# Altium footprint library chipsLibPcb.PcbLib: 20 footprints (part 1 of 2)
Each footprint in its own frame and in the unit in brackets; x right, y up, seen from the top. Pads: shape width x height; smd on the part's side, far side on the other; paste and mask are expansions set on the pad; w line width, h text height; cw(c..) or ccw(c..) is an arc to the next point about the centre after c.
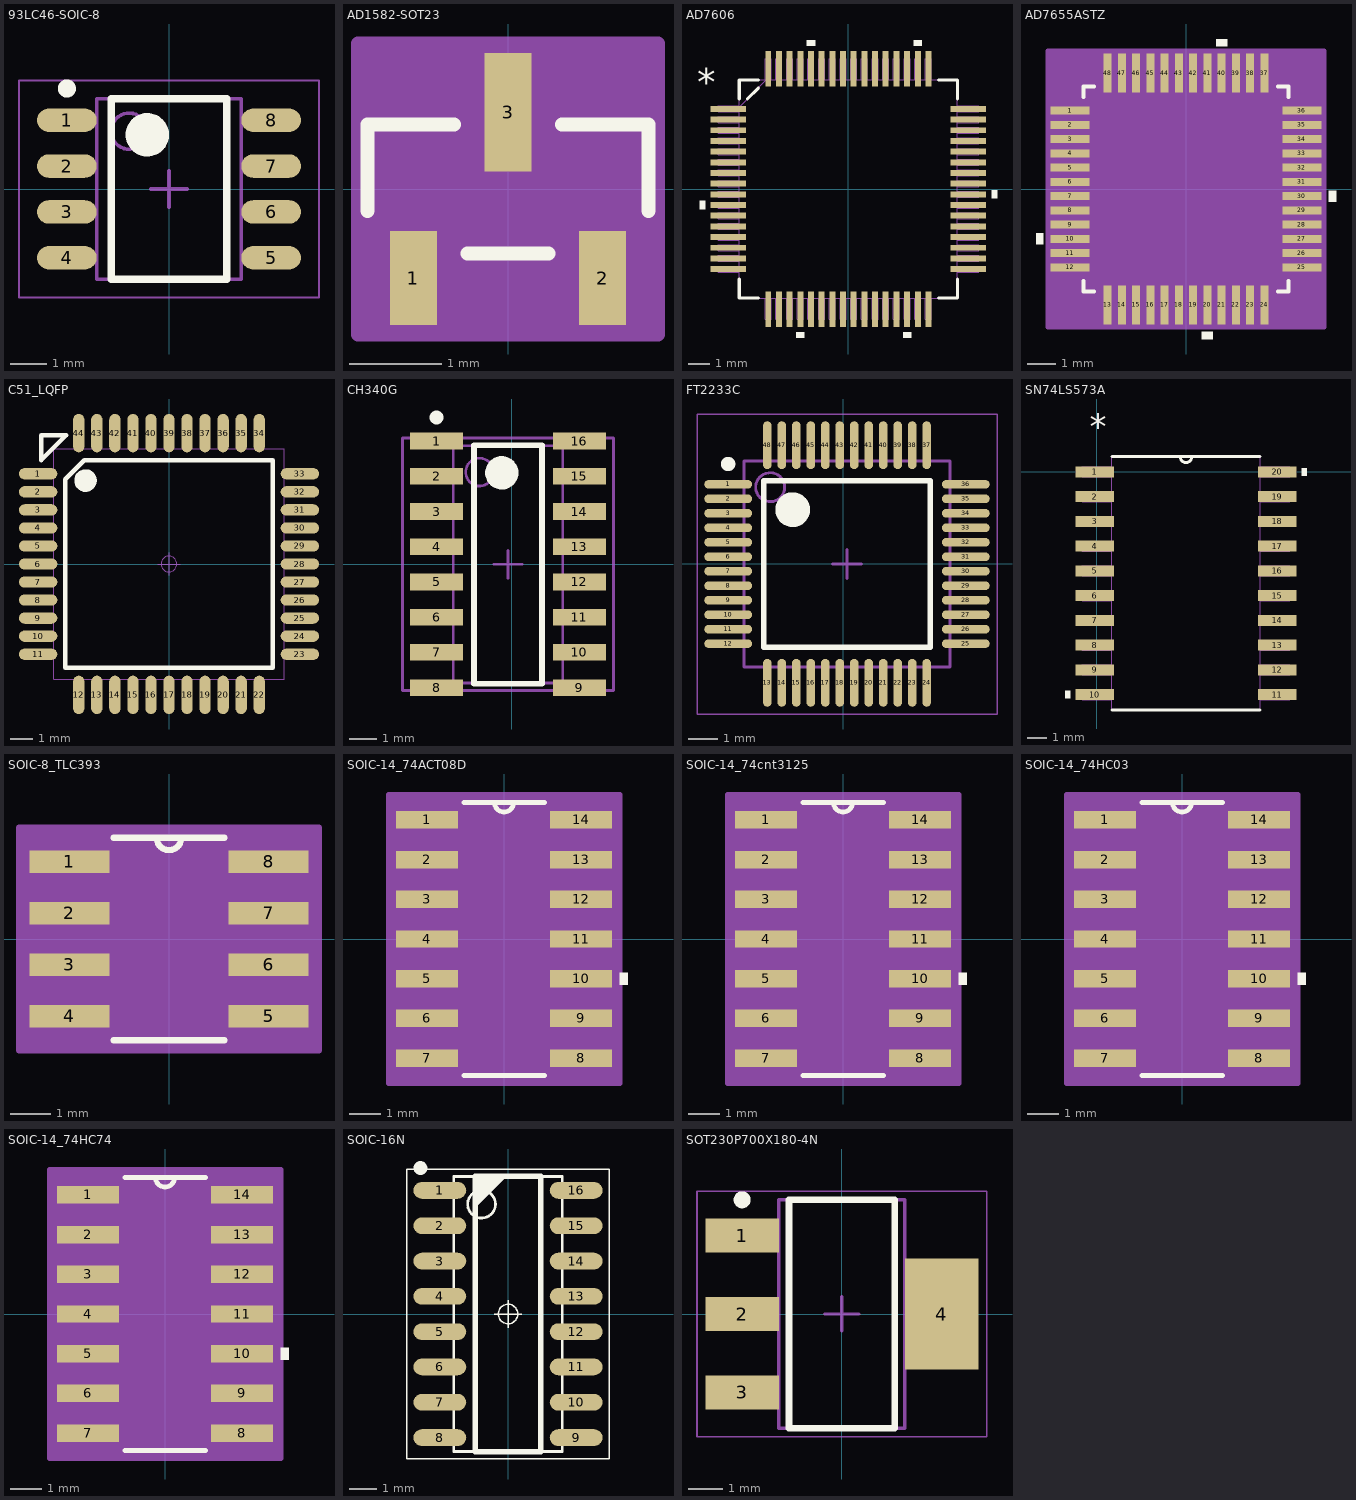
[diagram p0: the footprints below, top view; thin cyan lines are the x and y axes]

## 93LC46-SOIC-8 [mm] "SOIC, 8-Leads, Body 4.90x3.85mm, Pitch 1.27mm, IPC Low Density"
height 1.75
pads (8):
  oval 1.65x0.65 smd: 1(-2.825,1.905) 2(-2.825,0.635) 3(-2.825,-0.635) 4(-2.825,-1.905) 5(2.825,-1.905) 6(2.825,-0.635) 7(2.825,0.635) 8(2.825,1.905)
Top Overlay:
  circle w0.6: c-0.6,1.5 r0.3
  circle w0.25: c-2.825,2.78 r0.125
  lines w0.2: -1.6,-2.5 1.6,-2.5 1.6,2.5 -1.6,2.5 -1.6,-2.5
Mechanical 13:
  circle w0.1: c-1.1,1.6 r0.5
  lines w0.1: -2,-2.5 2,-2.5 2,2.5 -2,2.5 -2,-2.5
Mechanical 15:
  lines w0.05: -4.15,-3 4.15,-3 4.15,3 -4.15,3 -4.15,-3
  lines w0.1: -0.5,0 0.5,0 ; 0,-0.5 0,0.5
3D body: height 1.75, standoff 0.1, extent -2,-2.5 2,2.5

## AD1582-SOT23 [mil]
pads (3):
  rect 20x40 smd: 1(-40.35,-38) 2(40.35,-38)
  rect 20x50.5 smd: 3(0,32.75)
Top Overlay:
  lines w6: -60,-9.28 -60,27.5 -23,27.5 ; -17.35,-27.5 17.35,-27.5 ; 23,27.5 60,27.5 60,-9.28
Mechanical 13:
  lines w1: -60,-27.5 60,-27.5 60,27.5 -60,27.5 -60,-27.5 ; -50.35,-52 -50.35,-27.5 -30.35,-27.5 -30.35,-52 -50.35,-52 ; -10,27.5 10,27.5 10,52 -10,52 -10,27.5 ; 30.35,-52 30.35,-27.5 50.35,-27.5 50.35,-52 30.35,-52
Mechanical 15:
  region: 64,-62 -64,-62 -64,62 64,62
  lines w6: -64,-62 -64,62 64,62 64,-62 -64,-62
3D body: height 10, standoff 0, extent 0,0 10,10

## AD7606 [mil]
pads (64):
  rect 65.5x11 smd: 1(-221.25,147.64) 2(-221.25,127.95) 3(-221.25,108.27) 4(-221.25,88.58) 5(-221.25,68.9) 6(-221.25,49.21) 7(-221.25,29.53) 8(-221.25,9.84) 9(-221.25,-9.84) 10(-221.25,-29.53) 11(-221.25,-49.21) 12(-221.25,-68.9) 13(-221.25,-88.58) 14(-221.25,-108.27) 15(-221.25,-127.95) 16(-221.25,-147.64) 33(221.25,-147.64) 34(221.25,-127.95) 35(221.25,-108.27) 36(221.25,-88.58) 37(221.25,-68.9) 38(221.25,-49.21) 39(221.25,-29.53) 40(221.25,-9.84) 41(221.25,9.84) 42(221.25,29.53) 43(221.25,49.21) 44(221.25,68.9) 45(221.25,88.58) 46(221.25,108.27) 47(221.25,127.95) 48(221.25,147.64)
  rect 11x65.5 smd: 17(-147.64,-221.25) 18(-127.95,-221.25) 19(-108.27,-221.25) 20(-88.58,-221.25) 21(-68.9,-221.25) 22(-49.21,-221.25) 23(-29.53,-221.25) 24(-9.84,-221.25) 25(9.84,-221.25) 26(29.53,-221.25) 27(49.21,-221.25) 28(68.9,-221.25) 29(88.58,-221.25) 30(108.27,-221.25) 31(127.95,-221.25) 32(147.64,-221.25) 49(147.64,221.25) 50(127.95,221.25) 51(108.27,221.25) 52(88.58,221.25) 53(68.9,221.25) 54(49.21,221.25) 55(29.53,221.25) 56(9.84,221.25) 57(-9.84,221.25) 58(-29.53,221.25) 59(-49.21,221.25) 60(-68.9,221.25) 61(-88.58,221.25) 62(-108.27,221.25) 63(-127.95,221.25) 64(-147.64,221.25)
Top Overlay:
  region: -61.4,264 -76.4,264 -76.4,274 -61.4,274
  region: 135.45,264 120.45,264 120.45,274 135.45,274
  region: 264,-2.34 274,-2.34 274,-17.34 264,-17.34
  region: 115.77,-264 100.77,-264 100.77,-274 115.77,-274
  region: -81.08,-264 -96.08,-264 -96.08,-274 -81.08,-274
  region: -264,-22.03 -274,-22.03 -274,-37.03 -264,-37.03
  lines w6: -201,-166.14 -201,-201 -166.14,-201 ; -201,166.14 -201,201 -166.14,201 ; -186.09,165.91 -165.91,186.09 ; 166.14,-201 201,-201 201,-166.14 ; 166.14,201 201,201 201,166.14
  text "*" at -279,172.48 h50
Mechanical 1:
  drawing of 261 lines, arcs and shapes, not listed
  text "*" at -279,172.48 h50

## AD7655ASTZ [mil]
pads (48):
  rect 54x11 smd mask+5: 1(-160,108.27) 2(-160,88.58) 3(-160,68.9) 4(-160,49.21) 5(-160,29.53) 6(-160,9.84) 7(-160,-9.84) 8(-160,-29.53) 9(-160,-49.21) 10(-160,-68.9) 11(-160,-88.58) 12(-160,-108.27) 25(160,-108.27) 26(160,-88.58) 27(160,-68.9) 28(160,-49.21) 29(160,-29.53) 30(160,-9.84) 31(160,9.84) 32(160,29.53) 33(160,49.21) 34(160,68.9) 35(160,88.58) 36(160,108.27)
  rect 11x54 smd mask+5: 13(-108.27,-160) 14(-88.58,-160) 15(-68.9,-160) 16(-49.21,-160) 17(-29.53,-160) 18(-9.84,-160) 19(9.84,-160) 20(29.53,-160) 21(49.21,-160) 22(68.9,-160) 23(88.58,-160) 24(108.27,-160) 37(108.27,160) 38(88.58,160) 39(68.9,160) 40(49.21,160) 41(29.53,160) 42(9.84,160) 43(-9.84,160) 44(-29.53,160) 45(-49.21,160) 46(-68.9,160) 47(-88.58,160) 48(-108.27,160)
Top Overlay:
  region: 56.71,197 41.71,197 41.71,207 56.71,207
  region: 197,-2.34 207,-2.34 207,-17.34 197,-17.34
  region: 37.03,-197 22.03,-197 22.03,-207 37.03,-207
  region: -197,-61.4 -207,-61.4 -207,-76.4 -197,-76.4
  lines w6: -141.5,-126.87 -141.5,-141.5 -126.87,-141.5 ; -141.5,126.87 -141.5,141.5 -126.87,141.5 ; 126.87,-141.5 141.5,-141.5 141.5,-126.87 ; 126.87,141.5 141.5,141.5 141.5,126.87
Mechanical 13:
  drawing of 197 lines, arcs and shapes, not listed
Mechanical 15:
  region: 191,-191 -191,-191 -191,191 191,191
  lines w6: -191,-191 191,-191 191,191 -191,191 -191,-191
3D body: height 10, standoff 0, extent 0,0 10,10

## C51_LQFP [mm]
pads (44):
  oval 1.7x0.5 smd: 1(-5.8,4) 2(-5.8,3.2) 3(-5.8,2.4) 4(-5.8,1.6) 5(-5.8,0.8) 6(-5.8,0) 7(-5.8,-0.8) 8(-5.8,-1.6) 9(-5.8,-2.4) 10(-5.8,-3.2) 11(-5.8,-4) 23(5.8,-4) 24(5.8,-3.2) 25(5.8,-2.4) 26(5.8,-1.6) 27(5.8,-0.8) 28(5.8,0) 29(5.8,0.8) 30(5.8,1.6) 31(5.8,2.4) 32(5.8,3.2) 33(5.8,4)
  oval 0.5x1.7 smd: 12(-4,-5.8) 13(-3.2,-5.8) 14(-2.4,-5.8) 15(-1.6,-5.8) 16(-0.8,-5.8) 17(0,-5.8) 18(0.8,-5.8) 19(1.6,-5.8) 20(2.4,-5.8) 21(3.2,-5.8) 22(4,-5.8) 34(4,5.8) 35(3.2,5.8) 36(2.4,5.8) 37(1.6,5.8) 38(0.8,5.8) 39(0,5.8) 40(-0.8,5.8) 41(-1.6,5.8) 42(-2.4,5.8) 43(-3.2,5.8) 44(-4,5.8)
Top Overlay:
  circle w0.5: c-3.7,3.7 r0.25
  lines w0.2: -5.666,4.608 -4.566,5.708 -5.666,5.708 -5.666,4.608 ; -4.6,-4.6 -4.6,3.762 -3.762,4.6 4.6,4.6 4.6,-4.6 -4.6,-4.6
Mechanical 1:
  circle w0.05: c0,0 r0.35
  lines w0.001: -5.1,-5.1 -5.1,5.1 5.1,5.1 5.1,-5.1 -5.1,-5.1
  lines w0.05: -0.5,0 0.5,0 ; 0,-0.5 0,0.5
3D body: height 1.75, standoff 0, extent -6.02,-6.001 6.001,6.02

## CH340G [mm]
pads (16):
  rect 1.9x0.6 smd: 1(-2.702,4.445) 2(-2.702,3.175) 3(-2.702,1.905) 4(-2.702,0.635) 5(-2.702,-0.635) 6(-2.702,-1.905) 7(-2.702,-3.175) 8(-2.702,-4.445) 9(2.448,-4.445) 10(2.448,-3.175) 11(2.448,-1.905) 12(2.448,-0.635) 13(2.448,0.635) 14(2.448,1.905) 15(2.448,3.175) 16(2.448,4.445)
Top Overlay:
  circle w0.6: c-0.352,3.3 r0.3
  circle w0.25: c-2.702,5.295 r0.125
  lines w0.2: -1.352,-4.3 1.098,-4.3 1.098,4.3 -1.352,4.3 -1.352,-4.3
Mechanical 13:
  circle w0.1: c-1.152,3.325 r0.5
  lines w0.1: -2.102,-4.275 1.848,-4.275 1.848,4.275 -2.102,4.275 -2.102,-4.275
Mechanical 15:
  lines w0.1: -0.627,0 0.373,0 ; -0.127,-0.5 -0.127,0.5 ; -3.927,-4.55 3.673,-4.55 3.673,4.55 -3.927,4.55 -3.927,-4.55
3D body: height 1.7, standoff 0.16, extent -2.102,-4.275 1.848,4.275

## FT2233C [mm]
pads (48):
  oval 1.65x0.3 smd: 1(-3.973,2.75) 2(-3.973,2.25) 3(-3.973,1.75) 4(-3.973,1.25) 5(-3.973,0.75) 6(-3.973,0.25) 7(-3.973,-0.25) 8(-3.973,-0.75) 9(-3.973,-1.25) 10(-3.973,-1.75) 11(-3.973,-2.25) 12(-3.973,-2.75) 25(4.227,-2.75) 26(4.227,-2.25) 27(4.227,-1.75) 28(4.227,-1.25) 29(4.227,-0.75) 30(4.227,-0.25) 31(4.227,0.25) 32(4.227,0.75) 33(4.227,1.25) 34(4.227,1.75) 35(4.227,2.25) 36(4.227,2.75)
  oval 0.3x1.65 smd: 13(-2.623,-4.1) 14(-2.123,-4.1) 15(-1.623,-4.1) 16(-1.123,-4.1) 17(-0.623,-4.1) 18(-0.123,-4.1) 19(0.377,-4.1) 20(0.877,-4.1) 21(1.377,-4.1) 22(1.877,-4.1) 23(2.377,-4.1) 24(2.877,-4.1) 37(2.877,4.1) 38(2.377,4.1) 39(1.877,4.1) 40(1.377,4.1) 41(0.877,4.1) 42(0.377,4.1) 43(-0.123,4.1) 44(-0.623,4.1) 45(-1.123,4.1) 46(-1.623,4.1) 47(-2.123,4.1) 48(-2.623,4.1)
Top Overlay:
  circle w0.25: c-3.973,3.45 r0.125
  circle w0.6: c-1.748,1.875 r0.3
  lines w0.2: -2.748,-2.875 -2.748,2.875 3.002,2.875 3.002,-2.875 -2.748,-2.875
Mechanical 13:
  circle w0.1: c-2.523,2.65 r0.5
  lines w0.1: -3.423,-3.55 -3.423,3.55 3.677,3.55 3.677,-3.55 -3.423,-3.55
Mechanical 15:
  lines w0.05: -5.048,-5.175 -5.048,5.175 5.302,5.175 5.302,-5.175 -5.048,-5.175
  lines w0.1: -0.373,0 0.627,0 ; 0.127,-0.5 0.127,0.5
3D body: height 1.6, standoff 0.25, extent -3.423,-3.55 3.677,3.55

## PCBComponent_1 - duplicate [mm]

## SN74LS573A [mil]
pads (20):
  rect 78x22 smd: 1(-4.5,0) 2(-4.5,-50) 3(-4.5,-100) 4(-4.5,-150) 5(-4.5,-200) 6(-4.5,-250) 7(-4.5,-300) 8(-4.5,-350) 9(-4.5,-400) 10(-4.5,-450) 11(364.5,-450) 12(364.5,-400) 13(364.5,-350) 14(364.5,-300) 15(364.5,-250) 16(364.5,-200) 17(364.5,-150) 18(364.5,-100) 19(364.5,-50) 20(364.5,0)
Top Overlay:
  region: 413.5,7.5 423.5,7.5 423.5,-7.5 413.5,-7.5
  region: -53.5,-442.5 -63.5,-442.5 -63.5,-457.5 -53.5,-457.5
  lines w6: 30.5,-481 329.5,-481 ; 30.5,31 329.5,31 ; 168,31 ccw(c180,31) 192,31
  text "*" at -14.5,67 h50
Mechanical 1:
  lines w0: 168,31 ccw(c180,31) 192,31 ; -29.5,-460 30.5,-460 30.5,-440 -29.5,-440 -29.5,-460 ; -29.5,-410 30.5,-410 30.5,-390 -29.5,-390 -29.5,-410 ; -29.5,-360 30.5,-360 30.5,-340 -29.5,-340 -29.5,-360 ; -29.5,-310 30.5,-310 30.5,-290 -29.5,-290 -29.5,-310 ; -29.5,-260 30.5,-260 30.5,-240 -29.5,-240 -29.5,-260 ; -29.5,-210 30.5,-210 30.5,-190 -29.5,-190 -29.5,-210 ; -29.5,-160 30.5,-160 30.5,-140 -29.5,-140 -29.5,-160 ; -29.5,-110 30.5,-110 30.5,-90 -29.5,-90 -29.5,-110 ; -29.5,-60 30.5,-60 30.5,-40 -29.5,-40 -29.5,-60 ; -29.5,-10 30.5,-10 30.5,10 -29.5,10 -29.5,-10 ; 30.5,-481 30.5,31 329.5,31 329.5,-481 30.5,-481 ; 329.5,-460 389.5,-460 389.5,-440 329.5,-440 329.5,-460 ; 329.5,-410 389.5,-410 389.5,-390 329.5,-390 329.5,-410 ; 329.5,-360 389.5,-360 389.5,-340 329.5,-340 329.5,-360 ; 329.5,-310 389.5,-310 389.5,-290 329.5,-290 329.5,-310 ; 329.5,-260 389.5,-260 389.5,-240 329.5,-240 329.5,-260 ; 329.5,-210 389.5,-210 389.5,-190 329.5,-190 329.5,-210 ; 329.5,-160 389.5,-160 389.5,-140 329.5,-140 329.5,-160 ; 329.5,-110 389.5,-110 389.5,-90 329.5,-90 329.5,-110 ; 329.5,-60 389.5,-60 389.5,-40 329.5,-40 329.5,-60 ; 329.5,-10 389.5,-10 389.5,10 329.5,10 329.5,-10
  text "*" at -14.5,67 h50

## SOIC-8_TLC393 [mil]
pads (8):
  rect 78x22 smd: 1(-97,75) 2(-97,25) 3(-97,-25) 4(-97,-75) 5(97,-75) 6(97,-25) 7(97,25) 8(97,75)
Top Overlay:
  lines w6: -54.08,-98.5 54.08,-98.5 ; -54.08,98.5 54.08,98.5 ; -12,98.5 ccw(c0,98.5) 12,98.5
Mechanical 13:
  lines w0: -12,98.5 ccw(c0,98.5) 12,98.5
Mechanical 15:
  region: 146,-108.5 -146,-108.5 -146,108.5 146,108.5
  lines w6: -146,-108.5 146,-108.5 146,108.5 -146,108.5 -146,-108.5
3D body: height 69.1, standoff 0, extent -122,-98.5 122,98.5

## SOIC-14_74ACT08D [mil]
pads (14):
  rect 78x22 smd: 1(-97,150) 2(-97,100) 3(-97,50) 4(-97,0) 5(-97,-50) 6(-97,-100) 7(-97,-150) 8(97,-150) 9(97,-100) 10(97,-50) 11(97,0) 12(97,50) 13(97,100) 14(97,150)
Top Overlay:
  region: 146,-42.5 156,-42.5 156,-57.5 146,-57.5
  lines w6: -50.89,-172 50.89,-172 ; -50.89,172 50.89,172 ; -12,172 ccw(c0,172) 12,172
Mechanical 13:
  lines w0: -12,172 ccw(c0,172) 12,172
Mechanical 15:
  region: 146,-182 -146,-182 -146,182 146,182
  lines w6: -146,-182 -146,182 146,182 146,-182 -146,-182
3D body: height 69.1, standoff 0, extent -122,-172 122,172

## SOIC-14_74cnt3125 [mil]
pads (14):
  rect 78x22 smd: 1(-97,150) 2(-97,100) 3(-97,50) 4(-97,0) 5(-97,-50) 6(-97,-100) 7(-97,-150) 8(97,-150) 9(97,-100) 10(97,-50) 11(97,0) 12(97,50) 13(97,100) 14(97,150)
Top Overlay:
  region: 146,-42.5 156,-42.5 156,-57.5 146,-57.5
  lines w6: -50.89,-172 50.89,-172 ; -50.89,172 50.89,172 ; -12,172 ccw(c0,172) 12,172
Mechanical 13:
  lines w0: -12,172 ccw(c0,172) 12,172
Mechanical 15:
  region: 146,-182 -146,-182 -146,182 146,182
  lines w6: -146,-182 -146,182 146,182 146,-182 -146,-182
3D body: height 69.1, standoff 0, extent -122,-172 122,172

## SOIC-14_74HC03 [mil]
pads (14):
  rect 78x22 smd: 1(-97,150) 2(-97,100) 3(-97,50) 4(-97,0) 5(-97,-50) 6(-97,-100) 7(-97,-150) 8(97,-150) 9(97,-100) 10(97,-50) 11(97,0) 12(97,50) 13(97,100) 14(97,150)
Top Overlay:
  region: 146,-42.5 156,-42.5 156,-57.5 146,-57.5
  lines w6: -50.89,-172 50.89,-172 ; -50.89,172 50.89,172 ; -12,172 ccw(c0,172) 12,172
Mechanical 13:
  lines w0: -12,172 ccw(c0,172) 12,172
Mechanical 15:
  region: 146,-182 -146,-182 -146,182 146,182
  lines w6: -146,-182 -146,182 146,182 146,-182 -146,-182
3D body: height 69.1, standoff 0, extent -122,-172 122,172

## SOIC-14_74HC74 [mil]
pads (14):
  rect 78x22 smd: 1(-97,150) 2(-97,100) 3(-97,50) 4(-97,0) 5(-97,-50) 6(-97,-100) 7(-97,-150) 8(97,-150) 9(97,-100) 10(97,-50) 11(97,0) 12(97,50) 13(97,100) 14(97,150)
Top Overlay:
  region: 146,-42.5 156,-42.5 156,-57.5 146,-57.5
  lines w6: -50.89,-172 50.89,-172 ; -50.89,172 50.89,172 ; -12,172 ccw(c0,172) 12,172
Mechanical 13:
  lines w0: -12,172 ccw(c0,172) 12,172
Mechanical 15:
  region: 146,-182 -146,-182 -146,182 146,182
  lines w6: -146,-182 146,-182 146,182 -146,182 -146,-182
3D body: height 69.1, standoff 0, extent -122,-172 122,172

## SOIC-16N [mm]
pads (16):
  oval 1.9x0.6 smd: 1(-2.45,4.445) 2(-2.45,3.175) 3(-2.45,1.905) 4(-2.45,0.635) 5(-2.45,-0.635) 6(-2.45,-1.905) 7(-2.45,-3.175) 8(-2.45,-4.445) 9(2.45,-4.445) 10(2.45,-3.175) 11(2.45,-1.905) 12(2.45,-0.635) 13(2.45,0.635) 14(2.45,1.905) 15(2.45,3.175) 16(2.45,4.445)
Top Overlay:
  circle w0.05: c0,0 r0.35
  circle w0.1: c-0.95,3.95 r0.5
  circle w0.25: c-3.15,5.25 r0.125
  lines w0.001: -1.95,-4.95 1.95,-4.95 1.95,4.95 -1.95,4.95 -1.95,-4.95
  lines w0.05: -0.5,0 0.5,0 ; 0,-0.5 0,0.5 ; -3.65,-5.2 3.65,-5.2 3.65,5.2 -3.65,5.2 -3.65,-5.2
  lines w0.1: -1.95,-4.95 1.95,-4.95 1.95,4.95 -1.95,4.95 -1.95,-4.95
  lines w0.2: -1.175,3.95 -0.175,4.95 ; -1.175,4.15 -0.375,4.95 ; -1.175,4.35 -0.575,4.95 ; -1.175,4.55 -0.775,4.95 ; -1.175,4.75 -0.975,4.95 ; -1.175,-4.95 1.175,-4.95 1.175,4.95 -1.175,4.95 -1.175,-4.95
Mechanical 15:
  text "1" at 0.45,-0.164 h0.75

## SOT230P700X180-4N [mm] "SOT223, 4-Leads, Body 6.50x7.00mm (avg), Pitch 2.30mm, IPC Medium Density"
height 1.8
pads (4):
  rect 2.15x1 smd: 1(-2.925,2.3) 2(-2.925,0) 3(-2.925,-2.3)
  rect 2.15x3.25 smd: 4(2.925,0)
Top Overlay:
  circle w0.25: c-2.925,3.35 r0.125
  lines w0.2: -1.55,-3.35 -1.55,3.35 1.55,3.35 1.55,-3.35 -1.55,-3.35
Mechanical 13:
  lines w0.1: -1.85,-3.35 -1.85,3.35 1.85,3.35 1.85,-3.35 -1.85,-3.35
Mechanical 15:
  lines w0.05: -4.25,-3.6 -4.25,3.6 4.25,3.6 4.25,-3.6 -4.25,-3.6
  lines w0.1: -0.5,0 0.5,0 ; 0,-0.5 0,0.5
3D body: height 1.8, standoff 0.02, extent -1.85,-3.35 1.85,3.35